# EAGLE library part LTC1156 (library BMC components)
LTC1156: Quad High Side Micropower MOSFET Driver with Internal Charge Pump Datasheet: http://cds.linear.com/docs/Datasheet/lt1156.pdf Website: http://www.linear.com/product/LTC1156
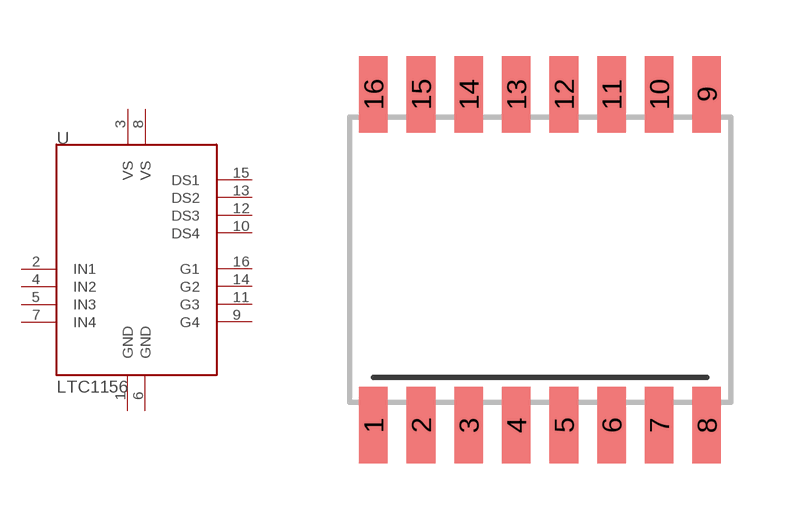
[diagram p18: symbol with the pads of SO-16_WIDE; footprint SO-16_WIDE]

Designator prefix -

## LTC1156  [SO-16_WIDE]
1  GND  pwr
2  IN1
3  VS  pwr
4  IN2
5  IN3
6  GND
7  IN4
8  VS
9  G4
10  DS4
11  G3
12  DS3
13  DS2
14  G2
15  DS1
16  G1

## Footprint SO-16_WIDE (pad centres in mm)
SO-16 W (0.300") The SO-16 Wide (0.300") package, from the Linear drawing LTC DWG # 05-08-1620: http://cds.linear.com/docs/Packaging/SO_16_05-08-1620.pdf Pin pitch: 0.05" Device width: 0.3" Device length: 0.4" Devices confirmed to correspond to this package: Linear LT1156 (LTC1156CSW)
smd 0.762 x 2.032: 1 -4.445,-4.413; 2 -3.175,-4.413; 3 -1.905,-4.413; 4 -0.635,-4.413; 5 0.635,-4.413; 6 1.905,-4.413; 7 3.175,-4.413; 8 4.445,-4.413; 9 4.445,4.413; 10 3.175,4.413; 11 1.905,4.413; 12 0.635,4.413; 13 -0.635,4.413; 14 -1.905,4.413; 15 -3.175,4.413; 16 -4.445,4.413